# EAGLE library part 72454-016LF (library 72454-016LF)
72454-016LF https://www.amphenol-icc.com/quickie-72454016lf.html
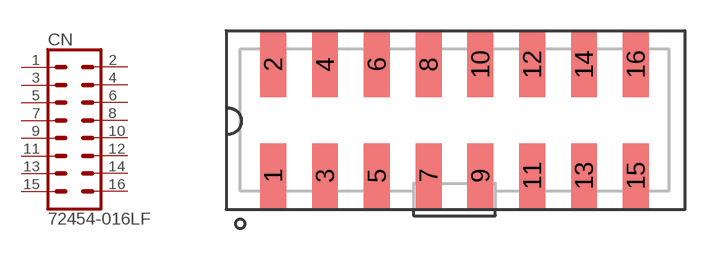
[diagram p0: symbol with the pads of 8X2_2.54MM; footprint 8X2_2.54MM]

Designator prefix CN

## 72454-016LF  [8X2_2.54MM]
1  1  pas
2  2  pas
3  3  pas
4  4  pas
5  5  pas
6  6  pas
7  7  pas
8  8  pas
9  9  pas
10  10  pas
11  11  pas
12  12  pas
13  13  pas
14  14  pas
15  15  pas
16  16  pas

## Footprint 8X2_2.54MM (pad centres in mm)
smd 1.27 x 3.18: 1 -8.89,-2.73; 2 -8.89,2.73; 3 -6.35,-2.73; 4 -6.35,2.73; 5 -3.81,-2.73; 6 -3.81,2.73; 7 -1.27,-2.73; 8 -1.27,2.73; 9 1.27,-2.73; 10 1.27,2.73; 11 3.81,-2.73; 12 3.81,2.73; 13 6.35,-2.73; 14 6.35,2.73; 15 8.89,-2.73; 16 8.89,2.73